# Altium integrated library AD5162BRMZ100.IntLib: 2 symbols
Pins are listed as number, name and electrical type; pins without a type are passive.

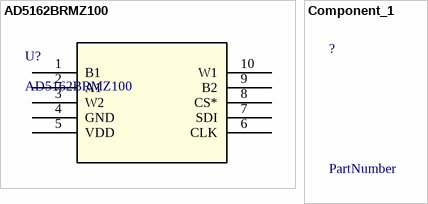
[diagram p0: symbols AD5162BRMZ100 to Component_1]

## AD5162BRMZ100
designator U?
No Description Available; Mfr_Name: Analog Devices Inc; Copyright: Copyright (C) 2022 Ultra Librarian. All rights reserved.; Manufacturer_Part_Number: AD5162BRMZ100; Digi-Key_Part_Number_1: AD5162BRMZ100-ND; Digi-Key_Part_Number_2: 2156-AD5162BRMZ100-ND; RefDes: RefDes; Type: DEV
footprint RM_10_ADI
pins: 1 B1, 2 A1, 3 W2, 4 GND, 5 VDD (power), 6 CLK, 7 SDI, 8 CS*, 9 B2, 10 W1

## Component_1
designator ?, comment PartNumber
Description; AllowSubstitute: N; Supplier: Digi-Key; SupplierPart: *; Manufacturer: *; ManucfaturerPart: *